# Altium footprint library PcbLib1.PcbLib: 3 footprints
Each footprint in its own frame and in the unit in brackets; x right, y up, seen from the top. Pads: shape width x height; smd on the part's side, far side on the other; paste and mask are expansions set on the pad; w line width, h text height; cw(c..) or ccw(c..) is an arc to the next point about the centre after c.
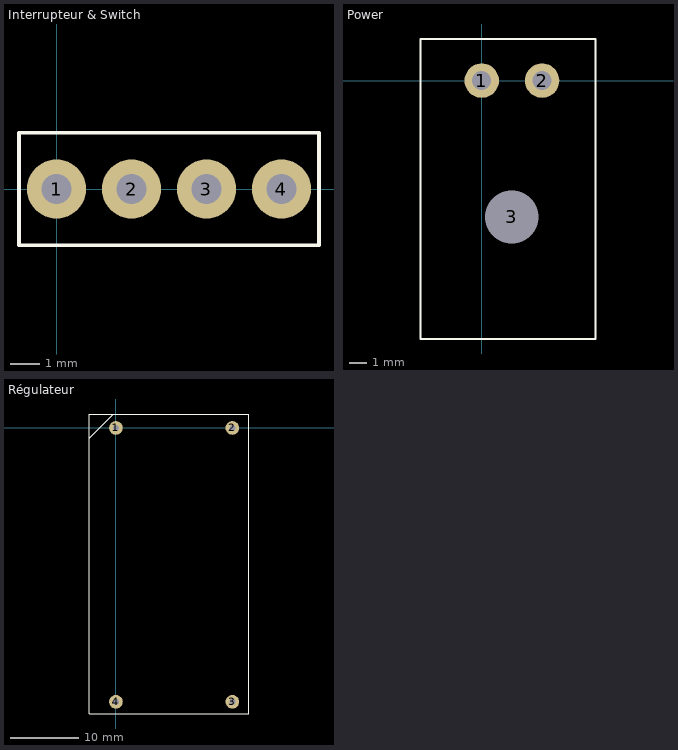
[diagram p0: the footprints below, top view; thin cyan lines are the x and y axes]

## Interrupteur & Switch [mm]
pads (4):
  round 2 hole 1: 1(0,0) 2(2.54,0) 3(5.08,0) 4(7.62,0)
Top Overlay:
  lines w0.125: -1.27,-1.905 -1.27,1.905 8.89,1.905 8.89,-1.905 -1.27,-1.905

## Power [mm]
pads (3):
  round 2 hole 1.1: 1(0,0) 2(3.5,0)
  round 1.524 hole 3.1: 3(1.75,-7.91)
Top Overlay:
  lines w0.125: -3.556,-14.986 6.604,-14.986 6.604,2.413 -3.556,2.413 -3.556,-11.811 -3.556,-14.986

## Régulateur [mm]
pads (4):
  round 2 hole 0.9: 1(0,0) 2(17,0) 3(17,-40) 4(0,-40)
Top Overlay:
  lines w0.125: -3.937,-1.905 -3.937,-1.524 -0.381,2.032 ; -3.937,-41.783 19.431,-41.783 19.431,2.032 -3.937,2.032 -3.937,-41.783